# EAGLE library part MA04-2 (library JeeLabs)
PIN HEADER
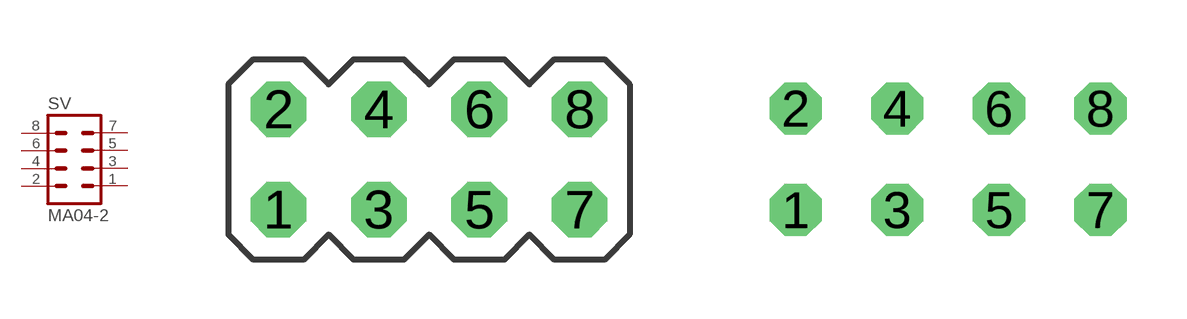
[diagram p7: symbol with the pads of MA04-2; footprints MA04-2, MA04-2-NOSILK]

Designator prefix SV

## MA04-2  [MA04-2]
1  1  pas
2  2  pas
3  3  pas
4  4  pas
5  5  pas
6  6  pas
7  7  pas
8  8  pas

## MA04-2N  [MA04-2-NOSILK]
Pads as for MA04-2

## Footprint MA04-2 (pad centres in mm)
PIN HEADER
drill 0.9 octagon: 1 -3.81,-1.27; 2 -3.81,1.27; 3 -1.27,-1.27; 4 -1.27,1.27; 5 1.27,-1.27; 6 1.27,1.27; 7 3.81,-1.27; 8 3.81,1.27

## Footprint MA04-2-NOSILK (pad centres in mm)
drill 0.8 octagon: 1 -3.81,-1.27; 2 -3.81,1.27; 3 -1.27,-1.27; 4 -1.27,1.27; 5 1.27,-1.27; 6 1.27,1.27; 7 3.81,-1.27; 8 3.81,1.27